# Altium footprint library ANTENNA_IIFA.PcbLib: 1 footprints
Each footprint in its own frame and in the unit in brackets; x right, y up, seen from the top. Pads: shape width x height; smd on the part's side, far side on the other; paste and mask are expansions set on the pad; w line width, h text height; cw(c..) or ccw(c..) is an arc to the next point about the centre after c.
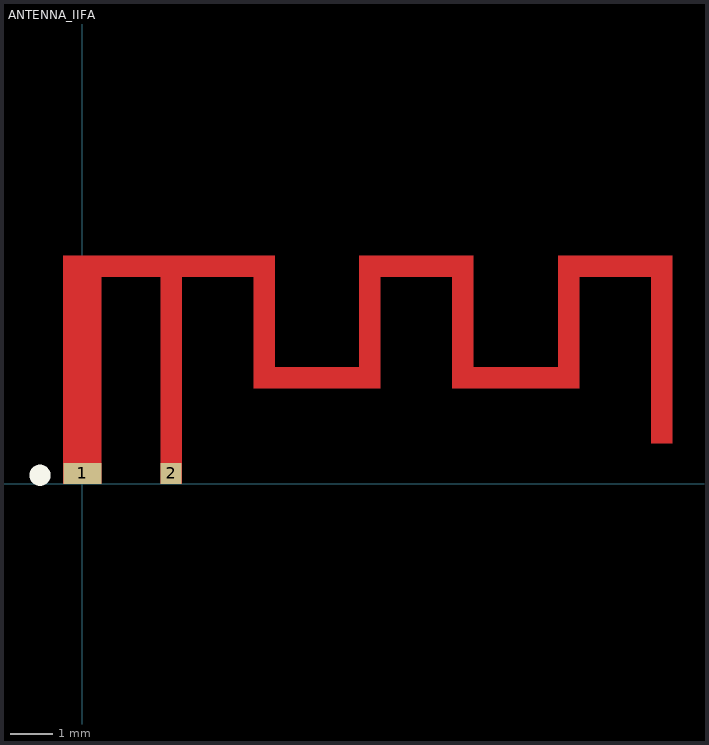
[diagram p0: the footprint, top view; thin cyan lines are the x and y axes]

## ANTENNA_IIFA [mm] "PCB Antenna, 2 leads"
pads (2):
  rect 0.9x0.5 smd paste-1 mask-1: 1(0,0.25)
  rect 0.5x0.5 smd paste-1 mask-1: 2(2.1,0.25)
Top Layer:
  region: -0.45,0 -0.45,5.4 4.55,5.4 4.55,2.76 6.55,2.76 6.55,5.4 9.25,5.4 9.25,2.76 11.25,2.76 11.25,5.4 13.95,5.4 13.95,0.96 13.45,0.96 13.45,4.9 11.75,4.9 11.75,2.26 8.75,2.26 8.75,4.9 7.05,4.9 7.05,2.26 4.05,2.26 4.05,4.9 2.35,4.9 2.35,0 1.85,0 1.85,4.9 0.45,4.9 0.45,0
Top Overlay:
  circle w0.3: c-1,0.205 r0.1